# EAGLE library part CHUMBY_DAUGHTER (library marius)
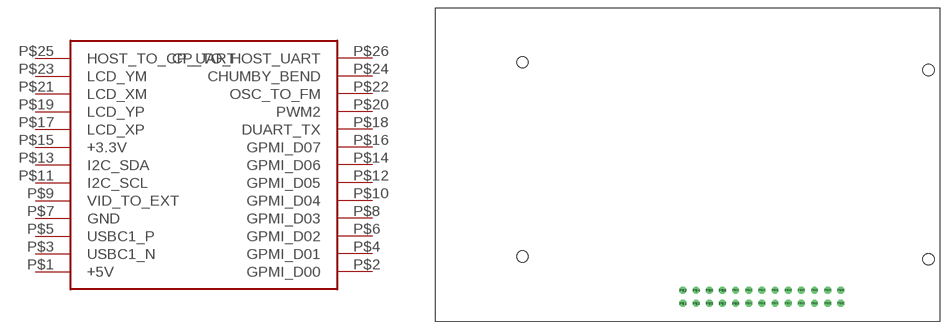
[diagram p5: symbol with the pads of CHUMBY_DAUGHTER; footprint CHUMBY_DAUGHTER]

Designator prefix -

## CHUMBY_DAUGHTER  [CHUMBY_DAUGHTER]
P$1  +5V
P$2  GPMI_D00
P$3  USBC1_N
P$4  GPMI_D01
P$5  USBC1_P
P$6  GPMI_D02
P$7  GND
P$8  GPMI_D03
P$9  VID_TO_EXT
P$10  GPMI_D04
P$11  I2C_SCL
P$12  GPMI_D05
P$13  I2C_SDA
P$14  GPMI_D06
P$15  +3.3V
P$16  GPMI_D07
P$17  LCD_XP
P$18  DUART_TX
P$19  LCD_YP
P$20  PWM2
P$21  LCD_XM
P$22  OSC_TO_FM
P$23  LCD_YM
P$24  CHUMBY_BEND
P$25  HOST_TO_CP_UART
P$26  CP_TO_HOST_UART

## Footprint CHUMBY_DAUGHTER (pad centres in mm)
drill 0.8 octagon: P$1 47.74,-57; P$2 47.74,-54.46; P$3 50.28,-57; P$4 50.28,-54.46; P$5 52.82,-57; P$6 52.82,-54.46; P$7 55.36,-57; P$8 55.36,-54.46; P$9 57.9,-57; P$10 57.9,-54.46; P$11 60.44,-57; P$12 60.44,-54.46; P$13 62.98,-57; P$14 62.98,-54.46; P$15 65.52,-57; P$16 65.52,-54.46; P$17 68.06,-57; P$18 68.06,-54.46; P$19 70.6,-57; P$20 70.6,-54.46; P$21 73.14,-57; P$22 73.14,-54.46; P$23 75.68,-57; P$24 75.68,-54.46; P$25 78.22,-57; P$26 78.22,-54.46
hole 2.2 at 16.77,-48
hole 2.2 at 16.77,-10.5
hole 2.2 at 95.17,-12
hole 2.2 at 95.17,-48.5